# EAGLE library part LP38853 (library My_TI)
LP38853 edit this description Auto generated by make-symbol-device-package-bsdl.ulp Rev. 43 Source: LP38853.txt
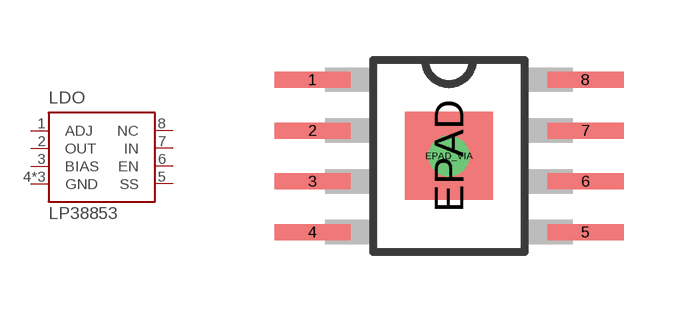
[diagram p6: symbol with the pads of SO8-POWERPAD; footprint SO8-POWERPAD]

Designator prefix LDO

## LP38853  [SO8-POWERPAD]
1  ADJ  in
2  OUT  out
3  BIAS  in
4  GND  pwr
5  SS  out
6  EN  in
7  IN  in
8  NC
EPAD  GND  pwr
EPAD_VIA  GND  pwr

## Footprint SO8-POWERPAD (pad centres in mm)
SO8-POWERPAD Auto generated by make-symbol-device-package-bsdl.ulp Rev. 43
smd 1.91 x 0.4: 1 -3.415,1.905; 2 -3.415,0.635; 3 -3.415,-0.635; 4 -3.415,-1.905; 5 3.415,-1.905; 6 3.415,-0.635; 7 3.415,0.635; 8 3.415,1.905
smd 2.2 x 2.2: EPAD 0,0
drill 0.5 pad 1.016: EPAD_VIA 0,0